# Altium schematic symbol library Conn.SchLib: 7 symbols
Pins are listed as number, name and electrical type; pins without a type are passive.

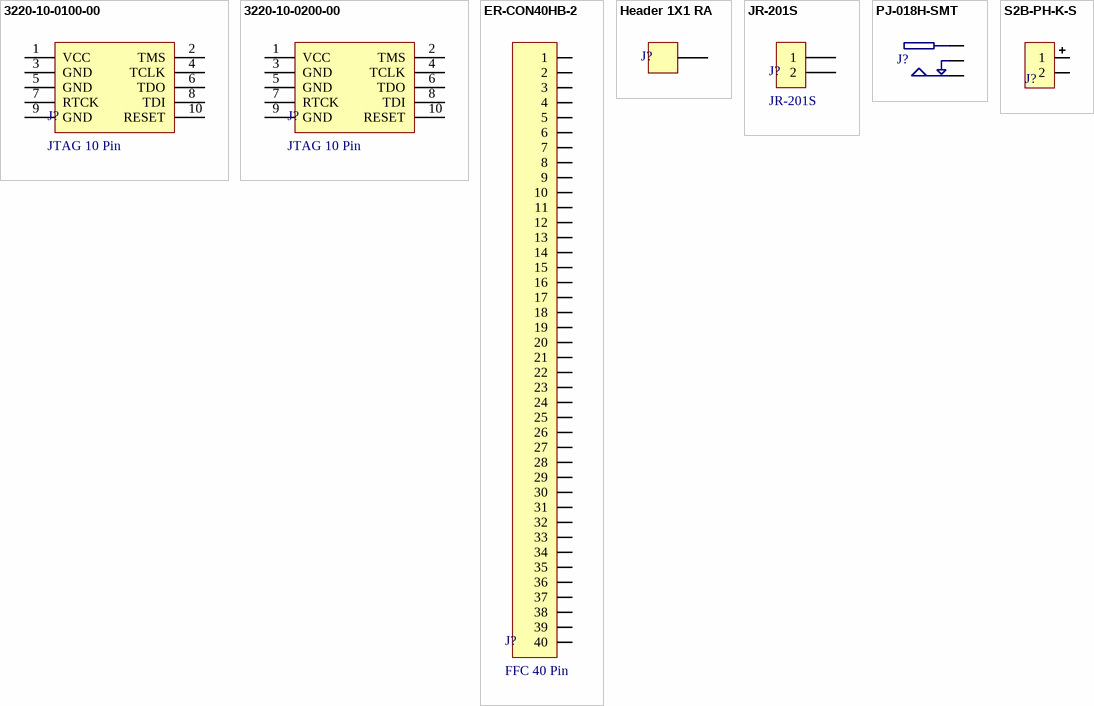
[diagram p0: symbols 3220-10-0100-00 to S2B-PH-K-S]

## 3220-10-0100-00
designator J?, comment JTAG 10 Pin
Conn - JTAG, Header, Male, 10 Pin, 1.27mm Pitch, ARM Standard; Supplier 1: Digi-Key; Supplier Part Number 1: 1175-1627-ND
footprint 3220-10-0100-00 (Conn - JTAG, Header, Male, 10 Pin, 1.27mm Pitch, ARM Standard)
pins: 1 VCC, 2 TMS, 3 GND, 4 TCLK, 5 GND, 6 TDO, 7 RTCK, 8 TDI, 9 GND, 10 RESET

## 3220-10-0200-00
designator J?, comment JTAG 10 Pin
Conn - JTAG, Header, Male, Right Angle, 10 Pin, 1.27mm Pitch, ARM Standard; Supplier 1: Digi-Key; Supplier Part Number 1: 1175-1628-ND
footprint 3220-10-0200-00 (Conn - JTAG, Header, Male, Right Angle, 10 Pin, 1.27mm Pitch, ARM Standard)
pins: 1 VCC, 2 TMS, 3 GND, 4 TCLK, 5 GND, 6 TDO, 7 RTCK, 8 TDI, 9 GND, 10 RESET

## ER-CON40HB-2
designator J?, comment FFC 40 Pin
Conn - FFC/FPC, 40 Pin, 1.0mm Pitch, ZIF
footprint ER-CON40HB-2 (Conn - FFC/FPC, 40 Pin, 1.0mm Pitch, ZIF)
pins: 1, 2, 3, 4, 5, 6, 7, 8, 9, 10, 11, 12, 13, 14, 15, 16, 17, 18, 19, 20, 21, 22, 23, 24, 25, 26, 27, 28, 29, 30, 31, 32, 33, 34, 35, 36, 37, 38, 39, 40

## Header 1X1 RA
designator J?  (value not drawn)
Conn - Header, 1 Pin, Right Angle
footprint Header 1X1 RA (Conn - Header, 1 Pin, Right Angle)
pins: 1

## JR-201S
designator J?
Conn - 250 V AC, Inlet, IEC, Plug; Supplier 1: Farnell; Supplier Part Number 1: 9248161
footprint JR-201S (Conn - 250 V AC, Inlet, IEC, Plug)
pins: 1, 2

## PJ-018H-SMT
designator J?  (value not drawn)
Conn - DC Power, Male, PCB, 4.0 mmOD / 1.7 mmID; Inner Diameter: 1.7 mm; Outer Diameter: 4.0 mm; DC Conn Standard: EIAJ-02; Supplier 1: Digi-Key; Supplier Part Number 1: CP-018HPJCT-ND
footprint PJ-018H-SMT (Conn - DC Power, Male, PCB, 4.0 mmOD / 1.7 mmID)
pins: 1, 2, 3

## S2B-PH-K-S
designator J?, comment JST PH 2 Pin  (value not drawn)
Conn - Battery, Male, 2 Pin, PCB, Right Angle; Supplier 1: Digi-Key; Supplier Part Number 1: 455-1719-ND
footprint S2B-PH-K-S (Conn - Battery, Male, 2 Pin, PCB, Right Angle)
pins: 1, 2